# EAGLE library part MA07-1 (library Master)
PIN HEADER
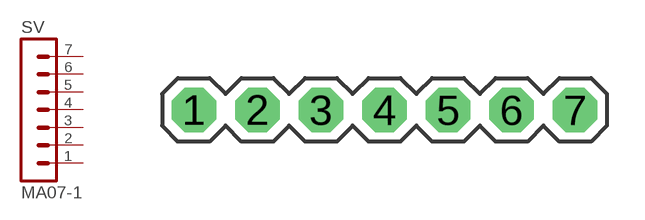
[diagram p23: symbol with the pads of MA07-1S; footprint MA07-1S]

Designator prefix SV

## MA07-1S  [MA07-1S]
1  1  pas
2  2  pas
3  3  pas
4  4  pas
5  5  pas
6  6  pas
7  7  pas

## Footprint MA07-1S (pad centres in mm)
PIN HEADER
drill 1.016 pad 1.778 octagon: 1 -8.89,0; 2 -6.35,0; 3 -3.81,0; 4 -1.27,0; 5 1.27,0; 6 3.81,0; 7 6.35,0